# EAGLE library part 1365-00 (library EW_Connectors)
DUAL ROW STRAIGHT HEADER 1364 SERIES. 1.27mm x 1.27mm. Without Fixing Post. SMT Source: http://www.leotronics.co.uk/Conexcon/Data%20Sheets/sec.%20A/1364ing.pdf
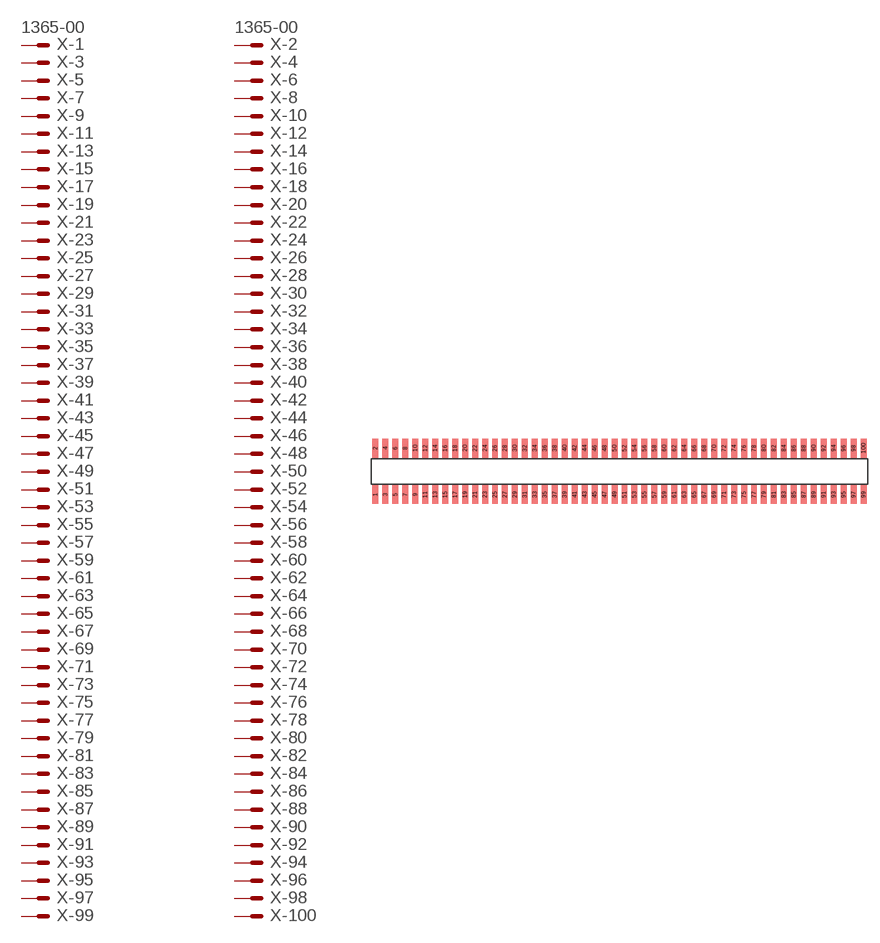
[diagram p182: symbol with the pads of 1365-00; footprint 1365-00]

Designator prefix X; gates -1=MVAL-40 -2=MVAL-40 -3=M-52 -4=M-52 -5=M-52 -6=M-52 -7=M-52 -8=M-52 -9=M-52 -10=M-52 -11=M-52 -12=M-52 -13=M-52 -14=M-52 -15=M-52 -16=M-52 -17=M-52 -18=M-52 -19=M-52 -20=M-52 -21=M-52 -22=M-52 -23=M-52 -24=M-52 -25=M-52 -26=M-52 -27=M-52 -28=M-52 -29=M-52 -30=M-52 -31=M-52 -32=M-52 -33=M-52 -34=M-52 -35=M-52 -36=M-52 -37=M-52 -38=M-52 -39=M-52 -40=M-52 -41=M-52 -42=M-52 -43=M-52 -44=M-52 -45=M-52 -46=M-52 -47=M-52 -48=M-52 -49=M-52 -50=M-52 -51=M-52 -52=M-52 -53=M-52 -54=M-52 -55=M-52 -56=M-52 -57=M-52 -58=M-52 -59=M-52 -60=M-52 -61=M-52 -62=M-52 -63=M-52 -64=M-52 -65=M-52 -66=M-52 -67=M-52 -68=M-52 -69=M-52 -70=M-52 -71=M-52 -72=M-52 -73=M-52 -74=M-52 -75=M-52 -76=M-52 -77=M-52 -78=M-52 -79=M-52 -80=M-52 -81=M-52 -82=M-52 -83=M-52 -84=M-52 -85=M-52 -86=M-52 -87=M-52 -88=M-52 -89=M-52 -90=M-52 -91=M-52 -92=M-52 -93=M-52 -94=M-52 -95=M-52 -96=M-52 -97=M-52 -98=M-52 -99=M-52 -100=M-52

## 1365-00 (OC_FARNELL: unknown; OC_NEWARK: unknown)  [1365-00]
1  -1:S  pas
2  -2:S  pas
3  -3:S  pas
4  -4:S  pas
5  -5:S  pas
6  -6:S  pas
7  -7:S  pas
8  -8:S  pas
9  -9:S  pas
10  -10:S  pas
11  -11:S  pas
12  -12:S  pas
13  -13:S  pas
14  -14:S  pas
15  -15:S  pas
16  -16:S  pas
17  -17:S  pas
18  -18:S  pas
19  -19:S  pas
20  -20:S  pas
21  -21:S  pas
22  -22:S  pas
23  -23:S  pas
24  -24:S  pas
25  -25:S  pas
26  -26:S  pas
27  -27:S  pas
28  -28:S  pas
29  -29:S  pas
30  -30:S  pas
31  -31:S  pas
32  -32:S  pas
33  -33:S  pas
34  -34:S  pas
35  -35:S  pas
36  -36:S  pas
37  -37:S  pas
38  -38:S  pas
39  -39:S  pas
40  -40:S  pas
41  -41:S  pas
42  -42:S  pas
43  -43:S  pas
44  -44:S  pas
45  -45:S  pas
46  -46:S  pas
47  -47:S  pas
48  -48:S  pas
49  -49:S  pas
50  -50:S  pas
51  -51:S  pas
52  -52:S  pas
53  -53:S  pas
54  -54:S  pas
55  -55:S  pas
56  -56:S  pas
57  -57:S  pas
58  -58:S  pas
59  -59:S  pas
60  -60:S  pas
61  -61:S  pas
62  -62:S  pas
63  -63:S  pas
64  -64:S  pas
65  -65:S  pas
66  -66:S  pas
67  -67:S  pas
68  -68:S  pas
69  -69:S  pas
70  -70:S  pas
71  -71:S  pas
72  -72:S  pas
73  -73:S  pas
74  -74:S  pas
75  -75:S  pas
76  -76:S  pas
77  -77:S  pas
78  -78:S  pas
79  -79:S  pas
80  -80:S  pas
81  -81:S  pas
82  -82:S  pas
83  -83:S  pas
84  -84:S  pas
85  -85:S  pas
86  -86:S  pas
87  -87:S  pas
88  -88:S  pas
89  -89:S  pas
90  -90:S  pas
91  -91:S  pas
92  -92:S  pas
93  -93:S  pas
94  -94:S  pas
95  -95:S  pas
96  -96:S  pas
97  -97:S  pas
98  -98:S  pas
99  -99:S  pas
100  -100:S  pas

## Footprint 1365-00 (pad centres in mm)
DUAL ROW STRAIGHT HEADER 1364 SERIES. 1.27mm x 1.27mm. Without Fixing Post. SMT Source: http://www.leotronics.co.uk/Conexcon/Data%20Sheets/sec.%20A/1364ing.pdf
smd 0.76 x 2.4: 1 -31.115,-2.95; 2 -31.115,2.95; 3 -29.845,-2.95; 4 -29.845,2.95; 5 -28.575,-2.95; 6 -28.575,2.95; 7 -27.305,-2.95; 8 -27.305,2.95; 9 -26.035,-2.95; 10 -26.035,2.95; 11 -24.765,-2.95; 12 -24.765,2.95; 13 -23.495,-2.95; 14 -23.495,2.95; 15 -22.225,-2.95; 16 -22.225,2.95; 17 -20.955,-2.95; 18 -20.955,2.95; 19 -19.685,-2.95; 20 -19.685,2.95; 21 -18.415,-2.95; 22 -18.415,2.95; 23 -17.145,-2.95; 24 -17.145,2.95; 25 -15.875,-2.95; 26 -15.875,2.95; 27 -14.605,-2.95; 28 -14.605,2.95; 29 -13.335,-2.95; 30 -13.335,2.95; 31 -12.065,-2.95; 32 -12.065,2.95; 33 -10.795,-2.95; 34 -10.795,2.95; 35 -9.525,-2.95; 36 -9.525,2.95; 37 -8.255,-2.95; 38 -8.255,2.95; 39 -6.985,-2.95; 40 -6.985,2.95; 41 -5.715,-2.95; 42 -5.715,2.95; 43 -4.445,-2.95; 44 -4.445,2.95; 45 -3.175,-2.95; 46 -3.175,2.95; 47 -1.905,-2.95; 48 -1.905,2.95; 49 -0.635,-2.95; 50 -0.635,2.95; 51 0.635,-2.95; 52 0.635,2.95; 53 1.905,-2.95; 54 1.905,2.95; 55 3.175,-2.95; 56 3.175,2.95; 57 4.445,-2.95; 58 4.445,2.95; 59 5.715,-2.95; 60 5.715,2.95; 61 6.985,-2.95; 62 6.985,2.95; 63 8.255,-2.95; 64 8.255,2.95; 65 9.525,-2.95; 66 9.525,2.95; 67 10.795,-2.95; 68 10.795,2.95; 69 12.065,-2.95; 70 12.065,2.95; 71 13.335,-2.95; 72 13.335,2.95; 73 14.605,-2.95; 74 14.605,2.95; 75 15.875,-2.95; 76 15.875,2.95; 77 17.145,-2.95; 78 17.145,2.95; 79 18.415,-2.95; 80 18.415,2.95; 81 19.685,-2.95; 82 19.685,2.95; 83 20.955,-2.95; 84 20.955,2.95; 85 22.225,-2.95; 86 22.225,2.95; 87 23.495,-2.95; 88 23.495,2.95; 89 24.765,-2.95; 90 24.765,2.95; 91 26.035,-2.95; 92 26.035,2.95; 93 27.305,-2.95; 94 27.305,2.95; 95 28.575,-2.95; 96 28.575,2.95; 97 29.845,-2.95; 98 29.845,2.95; 99 31.115,-2.95; 100 31.115,2.95